# Altium schematic symbol library SoM_Router.SchLib: 11 symbols
Pins are listed as number, name and electrical type; pins without a type are passive.

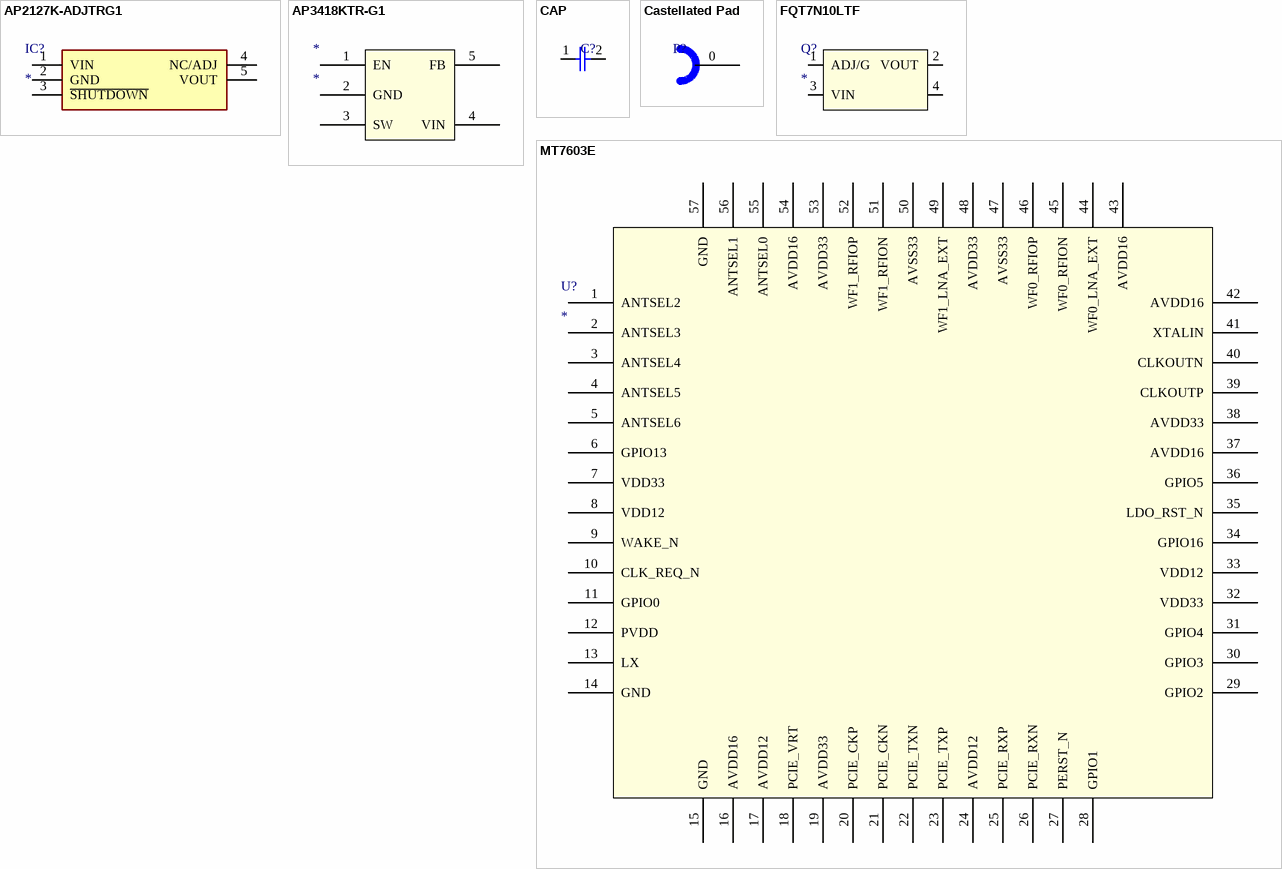
[diagram p0: symbols AP2127K-ADJTRG1 to MT7603E]

## AP2127K-ADJTRG1
designator IC?
Integrated Circuit; Manufacturer_Name: Diodes Inc.; Manufacturer_Part_Number: AP2127K-ADJTRG1; Datasheet Link: https://www.diodes.com/assets/Datasheets/AP2127.pdf; Height: 1.45mm; Mouser Part Number: 621-AP2127K-ADJTRG1; Mouser Price/Stock: https://www.mouser.co.uk/ProductDetail/Diodes-Incorporated/AP2127K-ADJTRG1?qs=x6A8l6qLYDB9dJkf7MndUg%3D%3D; Arrow Part Number: AP2127K-ADJTRG1; Arrow Price/Stock: https://www.arrow.com/en/products/ap2127k-adjtrg1/diodes-incorporated?region=nac
footprint SOT95P282X145-5N
pins: 1 VIN, 2 GND, 3 ~{SHUTDOWN}, 4 NC/ADJ, 5 VOUT

## AP3418KTR-G1
designator *
footprint SOT95P280X145-5N
pins: 1 EN, 2 GND, 3 SW, 4 VIN, 5 FB

## CAP
designator C?
footprint 0603-C (Capacitor 0603 Nominal Density)
footprint 0805-C (Capacitor 0805 Nominal Density)
footprint 1206-C (Capacitor 1206 Nominal Density)
footprint 0402-C
footprint 1210-C
pins: 1, 2

## Castellated Pad
designator P?  (value not drawn)
footprint Half_Hole
pins: 0

## FQT7N10LTF
designator Q?
N-Channel 100V 1.7A (Tc) 2W (Tc) Surface Mount SOT-223-4; MF: ON Semiconductor; MP: FQT7N10LTF; Package: TO-261-4 ON Semiconductor / Fairchild; SnapEDA_Link: https://www.snapeda.com/parts/FQT7N10LTF/ON%20Semiconductor/view-part/2738893/?ref=snap; Check_prices: https://www.snapeda.com/parts/FQT7N10LTF/ON%20Semiconductor/view-part/2738893/?ref=eda; Price: None; Availability: In Stock; Value: *
footprint SOT230P700X180-4N
pins: 1 ADJ/G, 2 VOUT, 3 VIN, 4

## MT7603E
designator U?
footprint QFN40P700X700X75_HS-57N (QFN, 56-Leads, Body 7.00x7.00mm, Pitch 0.40mm, Thermal Pad 4.60x4.60mm, IPC Medium Density)
pins: 1 ANTSEL2, 2 ANTSEL3, 3 ANTSEL4, 4 ANTSEL5, 5 ANTSEL6, 6 GPIO13, 7 VDD33, 8 VDD12, 9 WAKE_N, 10 CLK_REQ_N , 11 GPIO0, 12 PVDD, 13 LX, 14 GND, 15 GND, 16 AVDD16, 17 AVDD12, 18 PCIE_VRT, 19 AVDD33, 20 PCIE_CKP, 21 PCIE_CKN, 22 PCIE_TXN, 23 PCIE_TXP, 24 AVDD12, 25 PCIE_RXP, 26 PCIE_RXN, 27 PERST_N, 28 GPIO1, 29 GPIO2, 30 GPIO3, 31 GPIO4, 32 VDD33, 33 VDD12, 34 GPIO16, 35 LDO_RST_N, 36 GPIO5, 37 AVDD16, 38 AVDD33, 39 CLKOUTP, 40 CLKOUTN, 41 XTALIN, 42 AVDD16, 43 AVDD16, 44 WF0_LNA_EXT, 45 WF0_RFION, 46 WF0_RFIOP, 47 AVSS33, 48 AVDD33, 49 WF1_LNA_EXT, 50 AVSS33, 51 WF1_RFION, 52 WF1_RFIOP, 53 AVDD33, 54 AVDD16, 55 ANTSEL0, 56 ANTSEL1, 57 GND

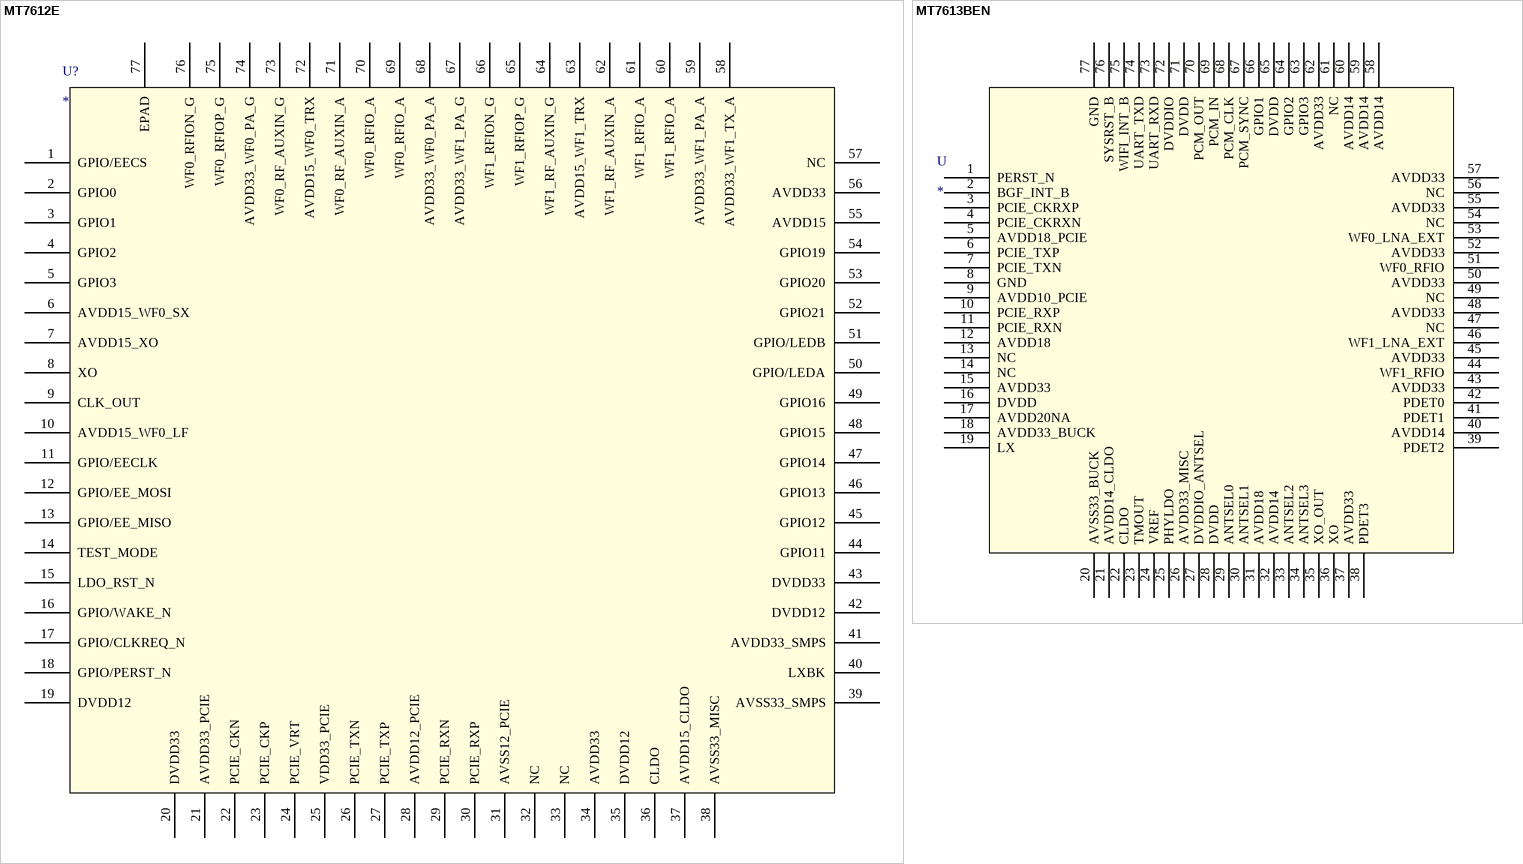
[diagram p1: symbols MT7612E to MT7613BEN]

## MT7612E
designator U?
footprint QFN40P900X900X80_HS-77N (QFN, 76-Leads, Body 9.00x9.00mm, Pitch 0.40mm, Thermal Pad 7.20x7.20mm, IPC Medium Density)
pins: 1 GPIO/EECS, 2 GPIO0, 3 GPIO1, 4 GPIO2, 5 GPIO3, 6 AVDD15_WF0_SX, 7 AVDD15_XO, 8 XO, 9 CLK_OUT, 10 AVDD15_WF0_LF, 11 GPIO/EECLK, 12 GPIO/EE_MOSI, 13 GPIO/EE_MISO, 14 TEST_MODE, 15 LDO_RST_N, 16 GPIO/WAKE_N, 17 GPIO/CLKREQ_N, 18 GPIO/PERST_N, 19 DVDD12, 20 DVDD33, 21 AVDD33_PCIE, 22 PCIE_CKN, 23 PCIE_CKP, 24 PCIE_VRT, 25 VDD33_PCIE, 26 PCIE_TXN, 27 PCIE_TXP, 28 AVDD12_PCIE, 29 PCIE_RXN, 30 PCIE_RXP, 31 AVSS12_PCIE, 32 NC, 33 NC, 34 AVDD33, 35 DVDD12, 36 CLDO, 37 AVDD15_CLDO, 38 AVSS33_MISC, 39 AVSS33_SMPS, 40 LXBK, 41 AVDD33_SMPS, 42 DVDD12, 43 DVDD33, 44 GPIO11, 45 GPIO12, 46 GPIO13, 47 GPIO14, 48 GPIO15, 49 GPIO16, 50 GPIO/LEDA, 51 GPIO/LEDB, 52 GPIO21, 53 GPIO20, 54 GPIO19, 55 AVDD15, 56 AVDD33, 57 NC, 58 AVDD33_WF1_TX_A, 59 AVDD33_WF1_PA_A, 60 WF1_RFIO_A, 61 WF1_RFIO_A, 62 WF1_RF_AUXIN_A, 63 AVDD15_WF1_TRX, 64 WF1_RF_AUXIN_G, 65 WF1_RFIOP_G, 66 WF1_RFION_G, 67 AVDD33_WF1_PA_G, 68 AVDD33_WF0_PA_A, 69 WF0_RFIO_A, 70 WF0_RFIO_A, 71 WF0_RF_AUXIN_A, 72 AVDD15_WF0_TRX, 73 WF0_RF_AUXIN_G, 74 AVDD33_WF0_PA_G, 75 WF0_RFIOP_G, 76 WF0_RFION_G, 77 EPAD

## MT7613BEN
designator U
MT7613BEN; MF: FTDI, Future; Value: *; Digi-Key_Part_Number: MT7613BEN; Digi-Key_Purchase_URL: MT7613BEN; MP: MT7613BEN; Package: QFN-76 FTDI
footprint QFN40P900X900X100-77N
pins: 1 PERST_N, 2 BGF_INT_B, 3 PCIE_CKRXP, 4 PCIE_CKRXN, 5 AVDD18_PCIE, 6 PCIE_TXP, 7 PCIE_TXN, 8 GND, 9 AVDD10_PCIE, 10 PCIE_RXP, 11 PCIE_RXN, 12 AVDD18, 13 NC, 14 NC, 15 AVDD33, 16 DVDD, 17 AVDD20NA, 18 AVDD33_BUCK, 19 LX, 20 AVSS33_BUCK, 21 AVDD14_CLDO, 22 CLDO, 23 TMOUT, 24 VREF, 25 PHYLDO, 26 AVDD33_MISC, 27 DVDDIO_ANTSEL, 28 DVDD, 29 ANTSEL0, 30 ANTSEL1, 31 AVDD18, 32 AVDD14, 33 ANTSEL2, 34 ANTSEL3, 35 XO_OUT, 36 XO, 37 AVDD33, 38 PDET3, 39 PDET2, 40 AVDD14, 41 PDET1, 42 PDET0, 43 AVDD33, 44 WF1_RFIO, 45 AVDD33, 46 WF1_LNA_EXT, 47 NC, 48 AVDD33, 49 NC, 50 AVDD33, 51 WF0_RFIO, 52 AVDD33, 53 WF0_LNA_EXT, 54 NC, 55 AVDD33, 56 NC, 57 AVDD33, 58 AVDD14, 59 AVDD14, 60 AVDD14, 61 NC, 62 AVDD33, 63 GPIO3, 64 GPIO2, 65 DVDD, 66 GPIO1, 67 PCM_SYNC, 68 PCM_CLK, 69 PCM_IN, 70 PCM_OUT, 71 DVDD, 72 DVDDIO, 73 UART_RXD, 74 UART_TXD, 75 WIFI_INT_B, 76 SYSRST_B, 77 GND

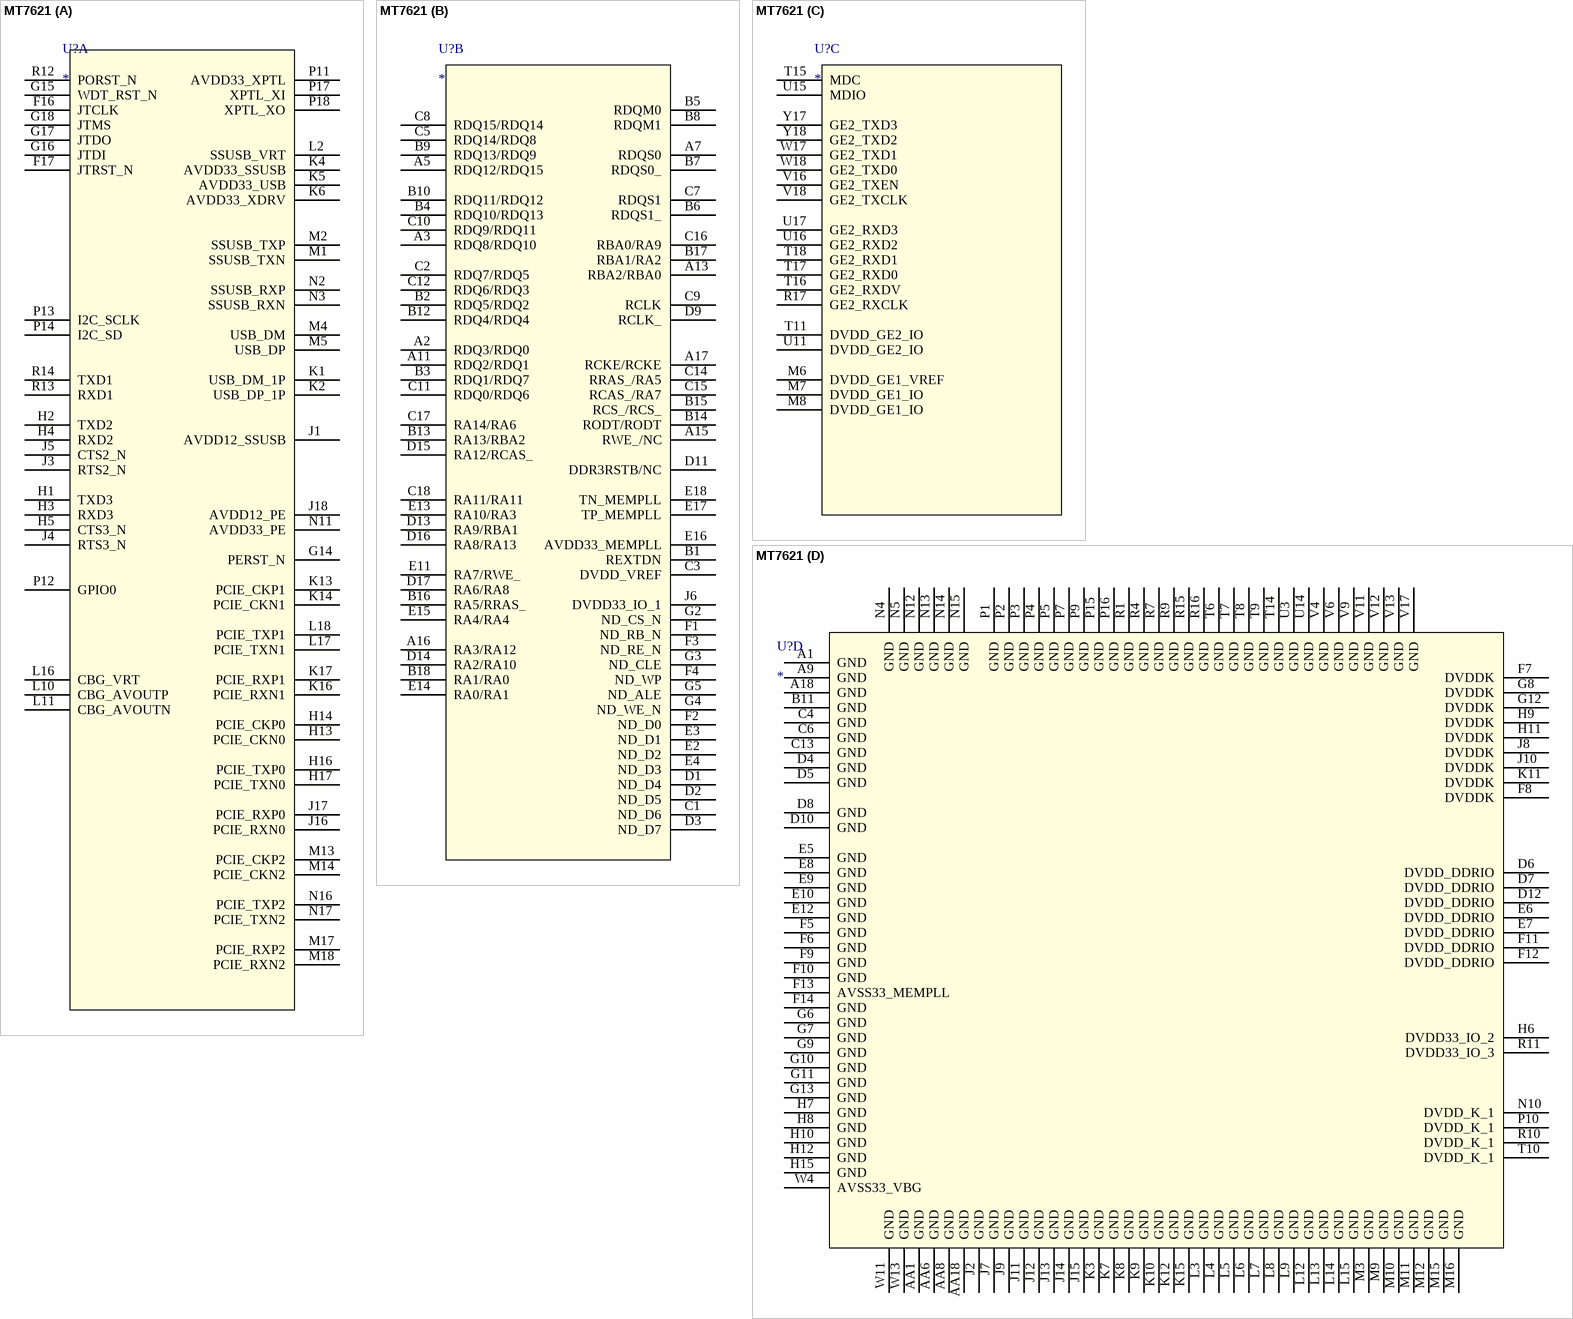
[diagram p2: symbol MT7621]

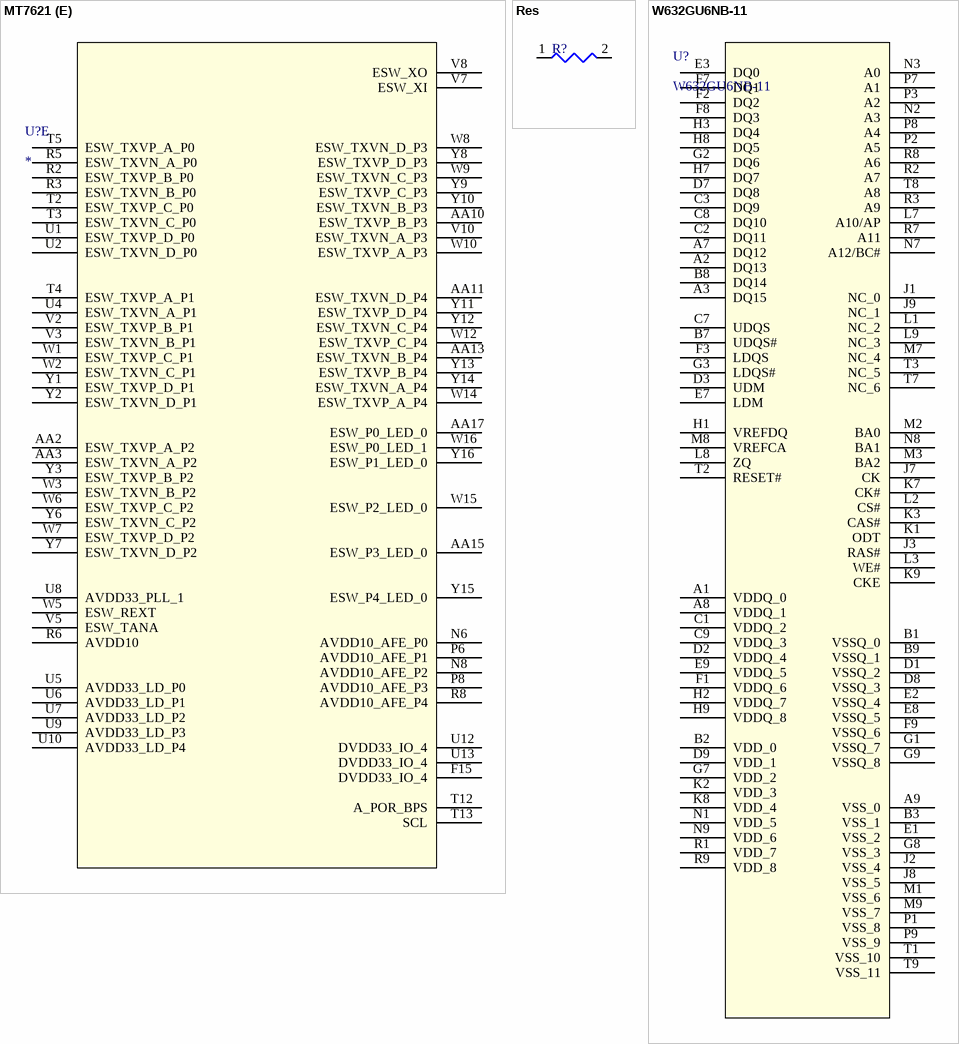
[diagram p3: symbols MT7621 to W632GU6NB-11]

## MT7621
designator U?
footprint BGA378C65P18X21_1170X1360X130 (BGA, 378-Leads, Body 11.70x13.60mmx1.30mm, Pitch 0.65mm)
part A pins: F16 JTCLK, F17 JTRST_N, G14 PERST_N, G15 WDT_RST_N, G16 JTDI, G17 JTDO, G18 JTMS, H1 TXD3, H2 TXD2, H3 RXD3, H4 RXD2, H5 CTS3_N, H13 PCIE_CKN0, H14 PCIE_CKP0, H16 PCIE_TXP0, H17 PCIE_TXN0, J1 AVDD12_SSUSB, J3 RTS2_N, J4 RTS3_N, J5 CTS2_N, J16 PCIE_RXN0, J17 PCIE_RXP0, J18 AVDD12_PE, K1 USB_DM_1P, K2 USB_DP_1P, K4 AVDD33_SSUSB, K5 AVDD33_USB, K6 AVDD33_XDRV, K13 PCIE_CKP1, K14 PCIE_CKN1, K16 PCIE_RXN1, K17 PCIE_RXP1, L2 SSUSB_VRT, L10 CBG_AVOUTP, L11 CBG_AVOUTN, L16 CBG_VRT, L17 PCIE_TXN1, L18 PCIE_TXP1, M1 SSUSB_TXN, M2 SSUSB_TXP, M4 USB_DM, M5 USB_DP, M13 PCIE_CKP2, M14 PCIE_CKN2, M17 PCIE_RXP2, M18 PCIE_RXN2, N2 SSUSB_RXP, N3 SSUSB_RXN, N11 AVDD33_PE, N16 PCIE_TXP2, N17 PCIE_TXN2, P11 AVDD33_XPTL, P12 GPIO0, P13 I2C_SCLK, P14 I2C_SD, P17 XPTL_XI, P18 XPTL_XO, R12 PORST_N, R13 RXD1, R14 TXD1
part B pins: A2 RDQ3/RDQ0, A3 RDQ8/RDQ10, A5 RDQ12/RDQ15, A7 RDQS0, A11 RDQ2/RDQ1, A13 RBA2/RBA0, A15 RWE_/NC, A16 RA3/RA12, A17 RCKE/RCKE, B1 REXTDN, B2 RDQ5/RDQ2, B3 RDQ1/RDQ7, B4 RDQ10/RDQ13, B5 RDQM0, B6 RDQS1_, B7 RDQS0_, B8 RDQM1, B9 RDQ13/RDQ9, B10 RDQ11/RDQ12, B12 RDQ4/RDQ4, B13 RA13/RBA2, B14 RODT/RODT, B15 RCS_/RCS_, B16 RA5/RRAS_, B17 RBA1/RA2, B18 RA1/RA0, C1 ND_D6, C2 RDQ7/RDQ5, C3 DVDD_VREF, C5 RDQ14/RDQ8, C7 RDQS1, C8 RDQ15/RDQ14, C9 RCLK, C10 RDQ9/RDQ11, C11 RDQ0/RDQ6, C12 RDQ6/RDQ3, C14 RRAS_/RA5, C15 RCAS_/RA7, C16 RBA0/RA9, C17 RA14/RA6, C18 RA11/RA11, D1 ND_D4, D2 ND_D5, D3 ND_D7, D9 RCLK_, D11 DDR3RSTB/NC, D13 RA9/RBA1, D14 RA2/RA10, D15 RA12/RCAS_, D16 RA8/RA13, D17 RA6/RA8, E2 ND_D2, E3 ND_D1, E4 ND_D3, E11 RA7/RWE_, E13 RA10/RA3, E14 RA0/RA1, E15 RA4/RA4, E16 AVDD33_MEMPLL, E17 TP_MEMPLL, E18 TN_MEMPLL, F1 ND_RB_N, F2 ND_D0, F3 ND_RE_N, F4 ND_WP, G2 ND_CS_N, G3 ND_CLE, G4 ND_WE_N, G5 ND_ALE, J6 DVDD33_IO_1
part C pins: M6 DVDD_GE1_VREF, M7 DVDD_GE1_IO, M8 DVDD_GE1_IO, R17 GE2_RXCLK, T11 DVDD_GE2_IO, T15 MDC, T16 GE2_RXDV, T17 GE2_RXD0, T18 GE2_RXD1, U11 DVDD_GE2_IO, U15 MDIO, U16 GE2_RXD2, U17 GE2_RXD3, V16 GE2_TXEN, V18 GE2_TXCLK, W17 GE2_TXD1, W18 GE2_TXD0, Y17 GE2_TXD3, Y18 GE2_TXD2
part D pins: A1 GND, A9 GND, A18 GND, AA1 GND, AA6 GND, AA8 GND, AA18 GND, B11 GND, C4 GND, C6 GND, C13 GND, D4 GND, D5 GND, D6 DVDD_DDRIO, D7 DVDD_DDRIO, D8 GND, D10 GND, D12 DVDD_DDRIO, E5 GND, E6 DVDD_DDRIO, E7 DVDD_DDRIO, E8 GND, E9 GND, E10 GND, E12 GND, F5 GND, F6 GND, F7 DVDDK, F8 DVDDK, F9 GND, F10 GND, F11 DVDD_DDRIO, F12 DVDD_DDRIO, F13 AVSS33_MEMPLL, F14 GND, G6 GND, G7 GND, G8 DVDDK, G9 GND, G10 GND, G11 GND, G12 DVDDK, G13 GND, H6 DVDD33_IO_2, H7 GND, H8 GND, H9 DVDDK, H10 GND, H11 DVDDK, H12 GND, H15 GND, J2 GND, J7 GND, J8 DVDDK, J9 GND, J10 DVDDK, J11 GND, J12 GND, J13 GND, J14 GND, J15 GND, K3 GND, K7 GND, K8 GND, K9 GND, K10 GND, K11 DVDDK, K12 GND, K15 GND, L3 GND, L4 GND, L5 GND, L6 GND, L7 GND, L8 GND, L9 GND, L12 GND, L13 GND, L14 GND, L15 GND, M3 GND, M9 GND, M10 GND, M11 GND, M12 GND, M15 GND, M16 GND, N4 GND, N5 GND, N10 DVDD_K_1, N12 GND, N13 GND, N14 GND, N15 GND, P1 GND, P2 GND, P3 GND, P4 GND, P5 GND, P7 GND, P9 GND, P10 DVDD_K_1, P15 GND, P16 GND, R1 GND, R4 GND, R7 GND, R9 GND, R10 DVDD_K_1, R11 DVDD33_IO_3, R15 GND, R16 GND, T6 GND, T7 GND, T8 GND, T9 GND, T10 DVDD_K_1, T14 GND, U3 GND, U14 GND, V4 GND, V6 GND, V9 GND, V11 GND, V12 GND, V13 GND, V17 GND, W4 AVSS33_VBG, W11 GND, W13 GND
part E pins: AA2 ESW_TXVP_A_P2, AA3 ESW_TXVN_A_P2, AA10 ESW_TXVP_B_P3, AA11 ESW_TXVN_D_P4, AA13 ESW_TXVN_B_P4, AA15 ESW_P3_LED_0, AA17 ESW_P0_LED_0, F15 DVDD33_IO_4, N6 AVDD10_AFE_P0, N8 AVDD10_AFE_P2, P6 AVDD10_AFE_P1, P8 AVDD10_AFE_P3, R2 ESW_TXVP_B_P0, R3 ESW_TXVN_B_P0, R5 ESW_TXVN_A_P0, R6 AVDD10, R8 AVDD10_AFE_P4, T2 ESW_TXVP_C_P0, T3 ESW_TXVN_C_P0, T4 ESW_TXVP_A_P1, T5 ESW_TXVP_A_P0, T12 A_POR_BPS, T13 SCL, U1 ESW_TXVP_D_P0, U2 ESW_TXVN_D_P0, U4 ESW_TXVN_A_P1, U5 AVDD33_LD_P0, U6 AVDD33_LD_P1, U7 AVDD33_LD_P2, U8 AVDD33_PLL_1, U9 AVDD33_LD_P3, U10 AVDD33_LD_P4, U12 DVDD33_IO_4, U13 DVDD33_IO_4, V2 ESW_TXVP_B_P1, V3 ESW_TXVN_B_P1, V5 ESW_TANA, V7 ESW_XI, V8 ESW_XO, V10 ESW_TXVN_A_P3, W1 ESW_TXVP_C_P1, W2 ESW_TXVN_C_P1, W3 ESW_TXVN_B_P2, W5 ESW_REXT, W6 ESW_TXVP_C_P2, W7 ESW_TXVP_D_P2, W8 ESW_TXVN_D_P3, W9 ESW_TXVN_C_P3, W10 ESW_TXVP_A_P3, W12 ESW_TXVP_C_P4, W14 ESW_TXVP_A_P4, W15 ESW_P2_LED_0, W16 ESW_P0_LED_1, Y1 ESW_TXVP_D_P1, Y2 ESW_TXVN_D_P1, Y3 ESW_TXVP_B_P2, Y6 ESW_TXVN_C_P2, Y7 ESW_TXVN_D_P2, Y8 ESW_TXVP_D_P3, Y9 ESW_TXVP_C_P3, Y10 ESW_TXVN_B_P3, Y11 ESW_TXVP_D_P4, Y12 ESW_TXVN_C_P4, Y13 ESW_TXVP_B_P4, Y14 ESW_TXVN_A_P4, Y15 ESW_P4_LED_0, Y16 ESW_P1_LED_0

## Res
designator R?
footprint 0603-R (Resistor 0603 Medium Density)
footprint 0805-R (Resistor 0805 Medium Density)
footprint 1206-R (Resistor 1206 Medium Density)
footprint 1210-R (Resistor 1210 Medium Density)
footprint 2010-R (Resistor 2010 Medium Density)
footprint 0402-R
pins: 1, 2

## W632GU6NB-11
designator U?
IC Dram 2GBIT Parallel 96VFBGA; Manufacturer: Winbond; Supplier 1: Digi-Key; Manufacturer Part Number: W632GU6NB-11; RoHS: Yes; Category: Memory; Pricing 1: 198=5.83955 (USD); Supplier Part Number 1: W632GU6NB-11-ND
footprint BGA144C80P9X16_750X1300X100 (BGA, 144-Leads, Body 7.50x13.00mmx1.00mm, Pitch 0.80mm)
pins: A1 VDDQ_0, A2 DQ13, A3 DQ15, A7 DQ12, A8 VDDQ_1, A9 VSS_0, B1 VSSQ_0, B2 VDD_0, B3 VSS_1, B7 UDQS#, B8 DQ14, B9 VSSQ_1, C1 VDDQ_2, C2 DQ11, C3 DQ9, C7 UDQS, C8 DQ10, C9 VDDQ_3, D1 VSSQ_2, D2 VDDQ_4, D3 UDM, D7 DQ8, D8 VSSQ_3, D9 VDD_1, E1 VSS_2, E2 VSSQ_4, E3 DQ0, E7 LDM, E8 VSSQ_5, E9 VDDQ_5, F1 VDDQ_6, F2 DQ2, F3 LDQS, F7 DQ1, F8 DQ3, F9 VSSQ_6, G1 VSSQ_7, G2 DQ6, G3 LDQS#, G7 VDD_2, G8 VSS_3, G9 VSSQ_8, H1 VREFDQ, H2 VDDQ_7, H3 DQ4, H7 DQ7, H8 DQ5, H9 VDDQ_8, J1 NC_0, J2 VSS_4, J3 RAS#, J7 CK, J8 VSS_5, J9 NC_1, K1 ODT, K2 VDD_3, K3 CAS#, K7 CK#, K8 VDD_4, K9 CKE, L1 NC_2, L2 CS#, L3 WE#, L7 A10/AP, L8 ZQ, L9 NC_3, M1 VSS_6, M2 BA0, M3 BA2, M7 NC_4, M8 VREFCA, M9 VSS_7, N1 VDD_5, N2 A3, N3 A0, N7 A12/BC#, N8 BA1, N9 VDD_6, P1 VSS_8, P2 A5, P3 A2, P7 A1, P8 A4, P9 VSS_9, R1 VDD_7, R2 A7, R3 A9, R7 A11, R8 A6, R9 VDD_8, T1 VSS_10, T2 RESET#, T3 NC_5, T7 NC_6, T8 A8, T9 VSS_11